# Altium footprint library Led.PcbLib: 14 footprints
Each footprint in its own frame and in the unit in brackets; x right, y up, seen from the top. Pads: shape width x height; smd on the part's side, far side on the other; paste and mask are expansions set on the pad; w line width, h text height; cw(c..) or ccw(c..) is an arc to the next point about the centre after c.
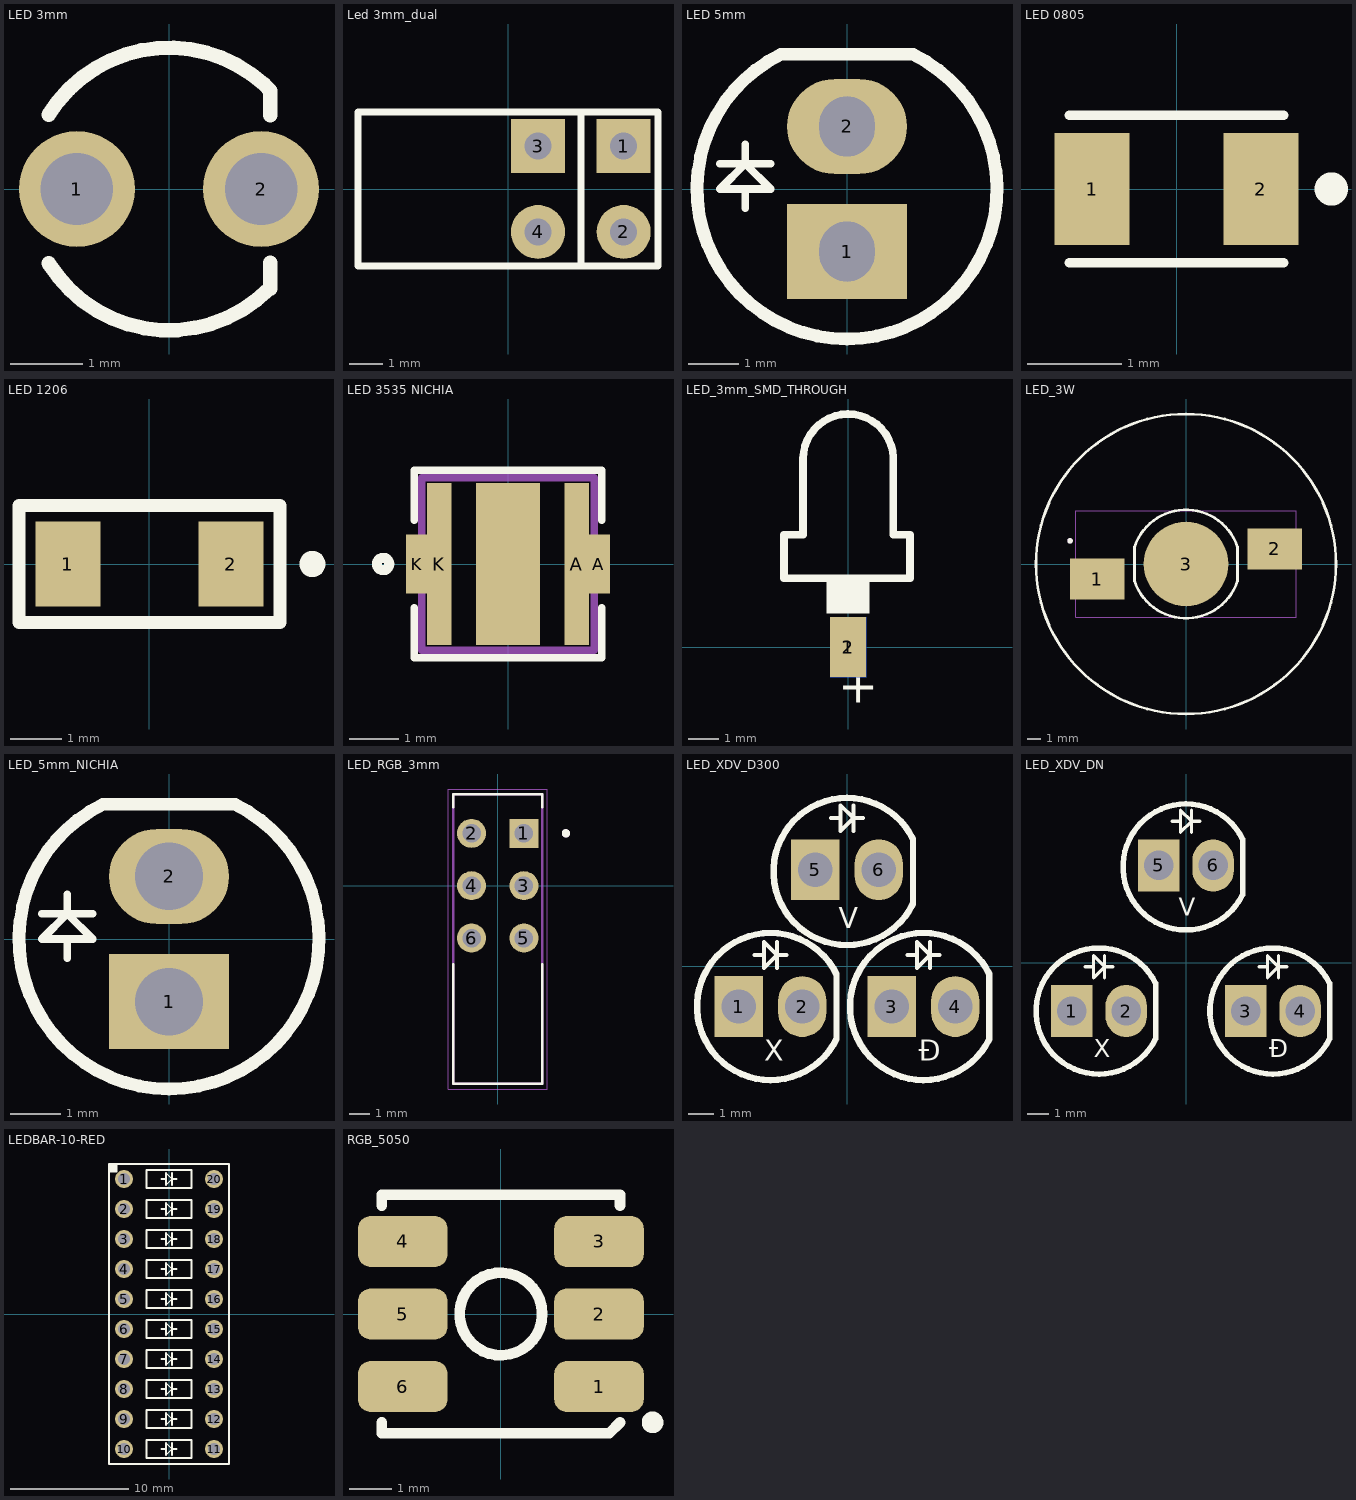
[diagram p0: the footprints below, top view; thin cyan lines are the x and y axes]

## LED 3mm [mm]
pads (2):
  round 1.6 hole 1: 1(-1.27,0) 2(1.27,0)
Top Overlay:
  lines w0.2: -1.661,-1.022 ccw(c0,0) 1.379,-1.379 ; -1.661,1.022 cw(c0,0) 1.312,1.443 1.397,1.358 1.397,1.016 ; 1.397,-1.379 1.397,-1.016
3D body "WL-TMRW_3mm.stp": height 10.5, standoff -21.2, extent -1.95,-1.949 1.87,1.95

## Led 3mm_dual [mm]
pads (4):
  rect 1.6x1.6 hole 0.8: 1(3.429,1.27) 3(0.889,1.27)
  round 1.6 hole 0.8: 2(3.429,-1.27) 4(0.889,-1.27)
Top Overlay:
  lines w0.203: 2.159,-2.286 2.159,2.286 ; -4.445,-2.286 -4.445,2.286 4.445,2.286 4.445,-2.286 -4.445,-2.286
3D body "DUAL LED HOUSING 3mm.stp": height 9.8, standoff -2.85, extent -7.195,-2.159 4.705,2.161

## LED 5mm [mm]
height 7.62
pads (2):
  rect 2.4x1.9 hole 1.1 slot 1.2 at 90 deg: 1(0,-1.25)
  oval 2.4x1.9 hole 1.1 slot 1.2 at 90 deg: 2(0,1.25)
Top Overlay:
  lines w0.152: -2.54,0.508 -2.032,0.508 ; -2.032,-0.381 -2.032,0 ; -2.032,0.889 -2.032,0.508 ; -1.524,0.508 -2.032,0.508 ; -2.032,0.508 -2.54,0 -1.524,0 -2.032,0.508
  lines w0.254: -1.323,2.693 ccw(c0,0) 1.323,2.693 -1.323,2.693
3D body "SW3dPS-LEDd5G.STEP": height 12.81, standoff -1.99, extent -3.01,-2.98 3.01,2.44

## LED 0805 [mm] "LED 0805"
pads (2):
  rect 0.8x1.2 smd: 1(-0.9,0) 2(0.9,0)
Top Overlay:
  circle w0.254: c1.651,0 r0.05
  lines w0.102: -1.143,-0.787 1.143,-0.787 ; -1.143,0.787 1.143,0.787
3D body "User Library-led_0805-blue.step": height 1.1, standoff 0, extent -1.01,-0.625 1.01,0.625

## LED 1206 [mil] "LED 1206"
height 50
pads (2):
  rect 50x65 smd: 1(-62.5,0) 2(62.5,0)
Top Overlay:
  circle w10: c125,0 r5
  lines w10: -100,-45 100,-45 100,45 -100,45 -100,-45
3D body "User Library-led_1206-blue.step": height 43.31, standoff 0, extent -64.38,-31.5 62.39,31.5

## LED 3535 NICHIA [mm]
pads (5):
  rect 0.5x3.3 smd: A(1.4,0) K(-1.4,0)
  rect 0.45x1.2 smd: A(1.85,0) K(-1.85,0)
  rect 1.3x3.3 smd: ""(0,0)
Top Overlay:
  circle w0.203: c-2.54,0 r0.127
  lines w0.152: -1.905,-0.889 -1.905,-1.905 1.905,-1.905 1.905,-0.889 ; -1.905,0.889 -1.905,1.905 1.905,1.905 1.905,0.889
Mechanical 15:
  lines w0.152: -1.75,-1.75 1.75,-1.75 1.75,1.75 -1.75,1.75 -1.75,-1.75
3D body "XPGDWT-B1-0000-00LE1--3DModel-STEP-269445.STEP": height 2.39, standoff 0.13, extent -1.725,-1.725 1.725,1.725

## LED_3mm_SMD_THROUGH [mm]
pads (2):
  rect 1.2x2 smd: 1(0,0)
  rect 1.2x2 smd far side: 2(0,0)
Top Overlay:
  rectangle: -0.713,1.118 0.71,2.261
  lines w0.254: -1.501,6.274 cw(c-0.002,6.248) 1.497,6.301 ; -1.5,6.274 -1.5,3.734 -2.135,3.734 -2.135,2.286 2.056,2.286 2.056,3.734 1.497,3.734 1.497,6.274
  text "+" at -0.325,-2.222 h2
3D body "User Library-LED 3 MM_Red.STEP": height 2, standoff -1.5, extent -1.998,-0.471 1.998,7.729

## LED_3W [mm]
pads (3):
  rect 4x3 smd: 1(-6.5,-1.1) 2(6.5,1.1)
  round 6.2 smd paste-1.14: 3(0,0)
Top Overlay:
  circle w0.2: c-8.5,1.7 r0.1
  circle w0.203: c0,0 r11
  lines w0.203: -3.772,-1.27 ccw(c0,0) 3.772,-1.27 3.772,0 3.772,1.27 ccw(c0,0) -3.772,1.27 -3.772,0 -3.772,-1.27
Mechanical 13:
  circle w0.2: c-8.5,1.7 r0.1
Mechanical 15:
  lines w0.05: -8.1,-3.9 -8.1,3.9 8.1,3.9 8.1,-3.9 -8.1,-3.9
3D body "WTN-3W-19 LED.stp": height 5.43, standoff 0.03, extent -7.15,-4 7.15,4

## LED_5mm_NICHIA [mm]
pads (2):
  rect 2.4x1.9 hole 1.35: 1(0,-1.25)
  oval 2.4x1.9 hole 1.35: 2(0,1.25)
Top Overlay:
  lines w0.152: -2.54,0.508 -2.032,0.508 ; -2.032,-0.381 -2.032,0 ; -2.032,0.889 -2.032,0.508 ; -1.524,0.508 -2.032,0.508 ; -2.032,0.508 -2.54,0 -1.524,0 -2.032,0.508
  lines w0.254: -1.323,2.693 ccw(c0,0) 1.323,2.693 -1.323,2.693
3D body "WL-TMRW_5mm.stp": height 9.1, standoff -25.9, extent -2.9,-2.9 2.899,2.5

## LED_RGB_3mm [mm]
height 15.24
pads (6):
  rect 1.408x1.408 / inner round 1.408 / far side rect 1.408x1.408 hole 0.9: 1(1.27,2.54)
  round 1.408 hole 0.9: 2(-1.27,2.54) 3(1.27,0) 4(-1.27,0) 5(1.27,-2.54) 6(-1.27,-2.54)
Top Overlay:
  circle w0.2: c3.305,2.54 r0.1
  lines w0.127: -2.16,-3.81 -2.16,-9.61 2.16,-9.61 2.16,-3.81 ; -2.16,3.81 -2.16,4.44 2.16,4.44 2.16,3.81
Mechanical 13:
  circle w0.2: c3.305,2.54 r0.1
  lines w0.127: -2.16,-9.61 2.16,-9.61 2.16,4.44 -2.16,4.44 -2.16,-9.61
Mechanical 15:
  lines w0.05: -2.41,-9.86 2.41,-9.86 2.41,4.69 -2.41,4.69 -2.41,-9.86
3D body "934SA.STEP": height 15.62, standoff -3.12, extent -2.16,-9.605 2.16,4.445

## LED_XDV_D300 [mm] "LED_XDV_D300"
pads (6):
  rect 1.9x2.4 hole 1.35: 1(-4.266,-1.587) 3(1.766,-1.587) 5(-1.25,3.81)
  oval 1.9x2.4 hole 1.35: 2(-1.766,-1.587) 4(4.266,-1.587) 6(1.25,3.81)
Top Overlay:
  lines w0.152: -3.651,0.445 -3.27,0.445 ; -2.762,-0.064 -2.762,0.445 ; -2.762,0.953 -2.762,0.445 ; -2.381,0.445 -2.762,0.445 ; -0.635,5.842 -0.254,5.842 ; 0.254,5.334 0.254,5.842 ; 0.254,6.35 0.254,5.842 ; 0.635,5.842 0.254,5.842 ; 2.381,0.445 2.762,0.445 ; 3.27,-0.064 3.27,0.445 ; 3.27,0.953 3.27,0.445 ; 3.651,0.445 3.27,0.445 ; -2.762,0.445 -3.27,-0.064 -3.27,0.953 -2.762,0.445 ; 0.254,5.842 -0.254,5.334 -0.254,6.35 0.254,5.842 ; 3.27,0.445 2.762,-0.064 2.762,0.953 3.27,0.445
  lines w0.254: -0.413,-2.866 cw(c-3.016,-1.587) -0.413,-0.309 -0.413,-2.866 ; 2.603,2.461 cw(c0,3.74) 2.603,5.019 2.603,2.461 ; 5.619,-2.866 cw(c3.016,-1.587) 5.619,-0.309 5.619,-2.866
  text "V" at -0.334,1.215 h1.4
  text "Đ" at 2.836,-3.994 h1.4
  text "X" at -3.255,-3.994 h1.4
3D body "SW3dPS-LEDd5G.STEP": height 9.31, standoff -5.49, extent -5.894,-4.597 -0.474,1.422
3D body "SW3dPS-LEDd5R.STEP": height 9.31, standoff -5.49, extent 0.103,-4.61 5.523,1.409
3D body "SW3dPS-LEDd5O.STEP": height 9.31, standoff -5.49, extent -2.96,0.711 2.46,6.731

## LED_XDV_DN [mm] "LED_XDV_DN400_DN600"
pads (6):
  rect 1.9x2.4 hole 1.35: 1(-5.25,-2.233) 3(2.75,-2.233) 5(-1.25,4.467)
  oval 1.9x2.4 hole 1.35: 2(-2.75,-2.233) 4(5.25,-2.233) 6(1.25,4.467)
Top Overlay:
  lines w0.152: -4.635,-0.201 -4.254,-0.201 ; -3.746,-0.709 -3.746,-0.201 ; -3.746,0.307 -3.746,-0.201 ; -3.365,-0.201 -3.746,-0.201 ; -0.635,6.499 -0.254,6.499 ; 0.254,5.991 0.254,6.499 ; 0.254,7.007 0.254,6.499 ; 0.635,6.499 0.254,6.499 ; 3.365,-0.201 3.746,-0.201 ; 4.254,-0.709 4.254,-0.201 ; 4.254,0.307 4.254,-0.201 ; 4.635,-0.201 4.254,-0.201 ; -3.746,-0.201 -4.254,-0.709 -4.254,0.307 -3.746,-0.201 ; 0.254,6.499 -0.254,5.991 -0.254,7.007 0.254,6.499 ; 4.254,-0.201 3.746,-0.709 3.746,0.307 4.254,-0.201
  lines w0.254: -1.397,-3.512 cw(c-4,-2.233) -1.397,-0.955 -1.397,-3.512 ; 2.603,3.118 cw(c0,4.397) 2.603,5.675 2.603,3.118 ; 6.603,-3.512 cw(c4,-2.233) 6.603,-0.955 6.603,-3.512
  text "V" at -0.334,1.872 h1.4
  text "Đ" at 3.82,-4.64 h1.4
  text "X" at -4.239,-4.64 h1.4
3D body "SW3dPS-LEDd5G.STEP": height 9.31, standoff -5.49, extent -6.878,-5.243 -1.458,0.777
3D body "SW3dPS-LEDd5R.STEP": height 9.31, standoff -5.49, extent 1.087,-5.256 6.507,0.764
3D body "SW3dPS-LEDd5O.STEP": height 9.31, standoff -5.49, extent -2.96,1.368 2.46,7.388

## LEDBAR-10-RED [mil]
pads (20):
  round 60 hole 40 unplated mask+2: 1(-150,450) 2(-150,350) 3(-150,250) 4(-150,150) 5(-150,50) 6(-150,-50) 7(-150,-150) 8(-150,-250) 9(-150,-350) 10(-150,-450) 11(150,-450) 12(150,-350) 13(150,-250) 14(150,-150) 15(150,-50) 16(150,50) 17(150,150) 18(150,250) 19(150,350) 20(150,450)
Top Overlay:
  rectangle: -200,475 -175,500
  lines w6: -200,475 -175,475 -175,500 ; -25,-450 -10,-450 ; -25,-350 -10,-350 ; -25,-250 -10,-250 ; -25,-150 -10,-150 ; -25,-50 -10,-50 ; -25,50 -10,50 ; -25,150 -10,150 ; -25,250 -10,250 ; -25,350 -10,350 ; -25,450 -10,450 ; 10,-470 10,-450 ; 10,-430 10,-450 ; 10,-370 10,-350 ; 10,-330 10,-350 ; 10,-270 10,-250 ; 10,-230 10,-250 ; 10,-170 10,-150 ; 10,-130 10,-150 ; 10,-70 10,-50 ; 10,-30 10,-50 ; 10,30 10,50 ; 10,70 10,50 ; 10,130 10,150 ; 10,170 10,150 ; 10,230 10,250 ; 10,270 10,250 ; 10,330 10,350 ; 10,370 10,350 ; 10,430 10,450 ; 10,470 10,450 ; 25,-450 10,-450 ; 25,-350 10,-350 ; 25,-250 10,-250 ; 25,-150 10,-150 ; 25,-50 10,-50 ; 25,50 10,50 ; 25,150 10,150 ; 25,250 10,250 ; 25,350 10,350 ; 25,450 10,450 ; 10,-450 -10,-430 -10,-470 10,-450 ; 10,-350 -10,-330 -10,-370 10,-350 ; 10,-250 -10,-230 -10,-270 10,-250 ; 10,-150 -10,-130 -10,-170 10,-150 ; 10,-50 -10,-30 -10,-70 10,-50 ; 10,50 -10,70 -10,30 10,50 ; 10,150 -10,170 -10,130 10,150 ; 10,250 -10,270 -10,230 10,250 ; 10,350 -10,370 -10,330 10,350 ; 10,450 -10,470 -10,430 10,450 ; -200,-500 200,-500 200,500 -200,500 -200,-500 ; -75,-480 -75,-420 75,-420 75,-480 -75,-480 ; -75,-380 -75,-320 75,-320 75,-380 -75,-380 ; -75,-280 -75,-220 75,-220 75,-280 -75,-280 ; -75,-180 -75,-120 75,-120 75,-180 -75,-180 ; -75,-80 -75,-20 75,-20 75,-80 -75,-80 ; -75,20 -75,80 75,80 75,20 -75,20 ; -75,120 -75,180 75,180 75,120 -75,120 ; -75,220 -75,280 75,280 75,220 -75,220 ; -75,320 -75,380 75,380 75,320 -75,320 ; -75,420 -75,480 75,480 75,420 -75,420
3D body "DC-10.STEP": height 325, standoff -147.44, extent -200,-500 200,500

## RGB_5050 [mm] "FYLS-5050RGBC"
pads (6):
  rrect50% 2.1x1.2 smd: 1(2.3,-1.7) 2(2.3,0) 3(2.3,1.7) 4(-2.3,1.7) 5(-2.3,0) 6(-2.3,-1.7)
Top Overlay:
  circle w0.254: c0,0 r0.967
  circle w0.254: c3.556,-2.54 r0.127
  lines w0.254: -2.794,-2.54 -2.794,-2.794 2.54,-2.794 2.794,-2.54 ; -2.794,2.54 -2.794,2.794 2.794,2.794 2.794,2.54
3D body "User Library-5050 RGB led.STEP": height 1.6, standoff 0, extent -2.77,-2.55 2.77,2.55